# Altium footprint library Relays.PcbLib: 1 footprints
Each footprint in its own frame and in the unit in brackets; x right, y up, seen from the top. Pads: shape width x height; smd on the part's side, far side on the other; paste and mask are expansions set on the pad; w line width, h text height; cw(c..) or ccw(c..) is an arc to the next point about the centre after c.
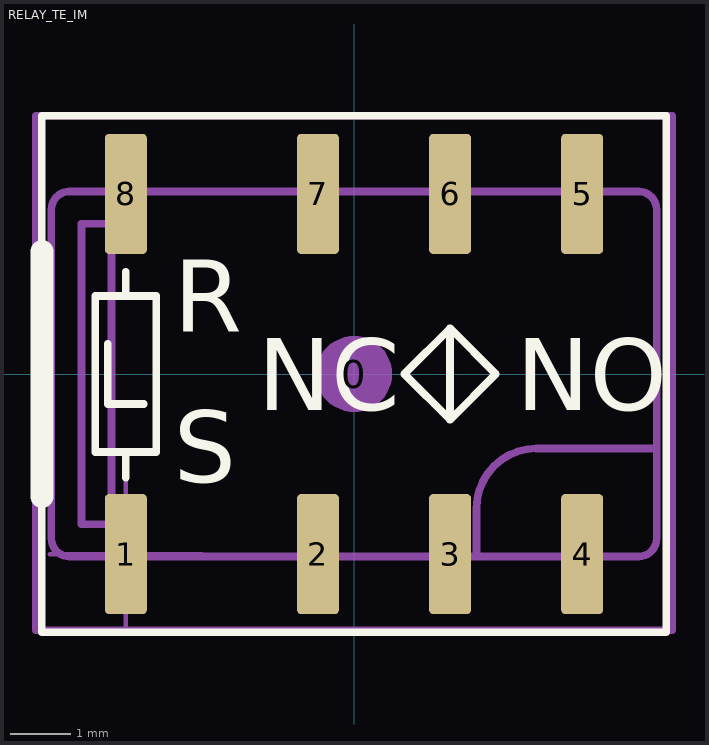
[diagram p0: the footprint, top view; thin cyan lines are the x and y axes]

## RELAY_TE_IM [mm] "TE Connectivity IM48DGR latching relay, gullwing SMD"
height 5.65
pads (9):
  round 1.27 on Mech15: 0(0,0)
  rrect20% 0.7x2 smd: 1(-3.8,-3) 2(-0.6,-3) 3(1.6,-3) 4(3.8,-3) 5(3.8,3) 6(1.6,3) 7(-0.6,3) 8(-3.8,3)
Top Overlay:
  lines w0.127: -4.1,0.5 -4.1,-0.5 -3.5,-0.5 ; -3.8,-1.73 -3.8,-1.3 ; -3.8,1.3 -3.8,1.7 ; 1.6,-0.762 0.838,0 1.6,0.762 ; 1.6,-0.762 1.6,0.762 ; 1.6,-0.762 2.362,0 1.6,0.762 ; -5.2,-4.3 -5.2,4.3 5.2,4.3 5.2,-4.3 -5.2,-4.3 ; -4.308,-1.3 -3.292,-1.3 -3.292,1.3 -4.308,1.3 -4.308,-1.3
  lines w0.381: -5.2,-2.045 -5.2,2.045
  text "S" at -3,-1.8 h1.2
  text "R" at -3,0.7 h1.2
  text "NC" at -1.6,-0.6 h1.2
  text "NO" at 2.7,-0.6 h1.2
Mechanical 13:
  lines w0.127: -4,-3.04 -4,-3.755 -3.6,-3.755 -3.6,-3.04 ; -4,3.04 -4,3.755 -3.6,3.755 -3.6,3.04 ; -0.8,-3.04 -0.8,-3.755 -0.4,-3.755 -0.4,-3.04 ; -0.8,3.04 -0.8,3.755 -0.4,3.755 -0.4,3.04 ; 1.4,-3.04 1.4,-3.755 1.8,-3.755 1.8,-3.04 ; 1.4,3.04 1.4,3.755 1.8,3.755 1.8,3.04 ; 2.04,-3.04 2.04,-2.24 cw(c3.04,-2.24) 3.04,-1.24 5.04,-1.24 ; 3.6,-3.04 3.6,-3.755 4,-3.755 4,-3.04 ; 3.6,3.04 3.6,3.755 4,3.755 4,3.04 ; -5.04,-2.74 ccw(c-4.74,-2.74) -4.74,-3.04 4.74,-3.04 ccw(c4.74,-2.74) 5.04,-2.74 5.04,2.74 ccw(c4.74,2.74) 4.74,3.04 -4.74,3.04 ccw(c-4.74,2.74) -5.04,2.74 -5.04,-2.74 ; -4.54,-2.5 -4.04,-2.5 -4.04,2.5 -4.54,2.5 -4.54,-2.5
Mechanical 15:
  lines w0.076: -5.07,-3 -2.53,-3 ; -3.8,-4.27 -3.8,-1.73
  lines w0.127: -5.3,-4.27 5.3,-4.27 5.3,4.3 -5.3,4.3 -5.3,-4.27
3D body "RELAY TE IM Series gull wing.STEP": height 5.65, standoff 0, extent -5.04,-3.755 5.04,3.755